# Altium schematic symbol library LTC2990.SchLib: 1 symbol
Pins are listed as number, name and electrical type; pins without a type are passive.

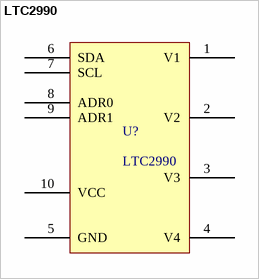
[diagram p0: symbol LTC2990]

## LTC2990
designator U?
Quad I2C Voltage, Current and Temperature Monitor
footprint LT-MS 10-MSOP (TSSOP, 10-Leads, Body 3.00x2.99mm, Pitch 0.50mm, IPC Medium Density)
pins: 1 V1, 2 V2, 3 V3, 4 V4, 5 GND, 6 SDA, 7 SCL, 8 ADR0, 9 ADR1, 10 VCC